# EAGLE library part SI7021-A10 (library gee_s)
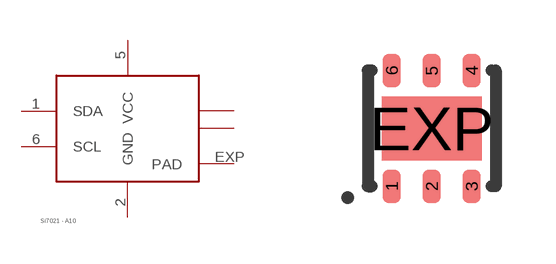
[diagram p12: symbol with the pads of DFN6(DC); footprint DFN6(DC)]

Designator prefix -

## SI7021-A10  [DFN6(DC)]
1  SDA
2  GND
3  DNC
4  DNC1
5  VCC
6  SCL
EXP  PAD

## Footprint DFN6(DC) (pad centres in mm)
Package generated from: DFN6(DC).asc (!PADS-POWERPCB-V5.0-BASIC! DESIGN DATABASE ASCII FILE 1.0) with :import-pads-powerpcb-v5.ulp Version 1.0.1 at 04.10.2012 14:11:17
smd 0.45 x 0.85: 1 -1,-1.45; 2 0,-1.45; 3 1,-1.45; 4 1,1.45; 5 0,1.45; 6 -1,1.45
smd 2.5 x 1.6: EXP 0,0